# EAGLE library part 2X25 (library CardEdgePads)
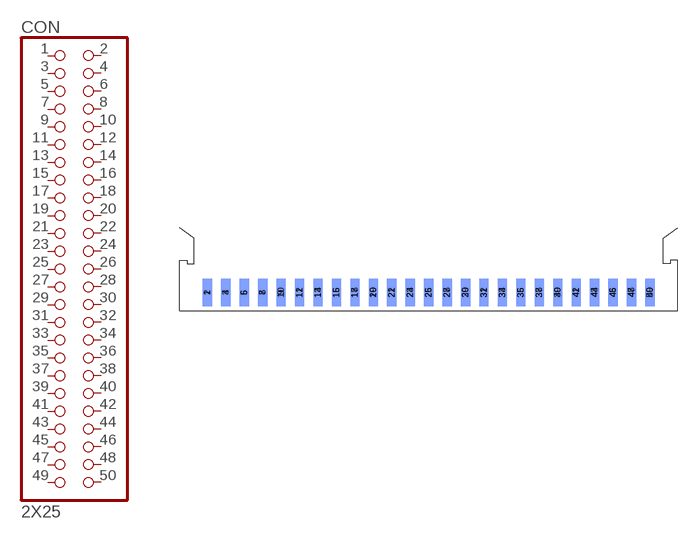
[diagram p0: symbol with the pads of 2X25; footprint 2X25]

Designator prefix CON

## 2X25  [2X25]
1  1  pas
2  2  pas
3  3  pas
4  4  pas
5  5  pas
6  6  pas
7  7  pas
8  8  pas
9  9  pas
10  10  pas
11  11  pas
12  12  pas
13  13  pas
14  14  pas
15  15  pas
16  16  pas
17  17  pas
18  18  pas
19  19  pas
20  20  pas
21  21  pas
22  22  pas
23  23  pas
24  24  pas
25  25  pas
26  26  pas
27  27  pas
28  28  pas
29  29  pas
30  30  pas
31  31  pas
32  32  pas
33  33  pas
34  34  pas
35  35  pas
36  36  pas
37  37  pas
38  38  pas
39  39  pas
40  40  pas
41  41  pas
42  42  pas
43  43  pas
44  44  pas
45  45  pas
46  46  pas
47  47  pas
48  48  pas
49  49  pas
50  50  pas

## Footprint 2X25 (pad centres in mm)
smd 1.27 x 3.81: 1 -30.48,0; 3 -27.94,0; 5 -25.4,0; 7 -22.86,0; 9 -20.32,0; 11 -17.78,0; 13 -15.24,0; 15 -12.7,0; 17 -10.16,0; 19 -7.62,0; 21 -5.08,0; 23 -2.54,0; 25 0,0; 27 2.54,0; 29 5.08,0; 31 7.62,0; 33 10.16,0; 35 12.7,0; 37 15.24,0; 39 17.78,0; 41 20.32,0; 43 22.86,0; 45 25.4,0; 47 27.94,0; 49 30.48,0
smd 1.27 x 3.81 bottom: 2 -30.48,0; 4 -27.94,0; 6 -25.4,0; 8 -22.86,0; 10 -20.32,0; 12 -17.78,0; 14 -15.24,0; 16 -12.7,0; 18 -10.16,0; 20 -7.62,0; 22 -5.08,0; 24 -2.54,0; 26 0,0; 28 2.54,0; 30 5.08,0; 32 7.62,0; 34 10.16,0; 36 12.7,0; 38 15.24,0; 40 17.78,0; 42 20.32,0; 44 22.86,0; 46 25.4,0; 48 27.94,0; 50 30.48,0